# Altium schematic symbol library OP_Amps.SchLib: 3 symbols
Pins are listed as number, name and electrical type; pins without a type are passive.

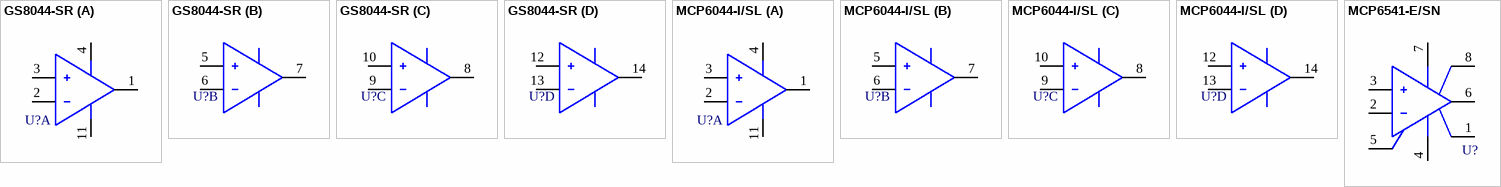
[diagram p0: symbols GS8044-SR to MCP6541-E/SN]

## GS8044-SR
designator U?, comment GS8044  (value not drawn)
IC OPAMP GP 4 CIRCUIT 14SOIC; Manufacturer: Gainsil; Manufacturer Part Number: GS8044-SR; Category: Amplificador operacional; Datasheet: https://datasheet.lcsc.com/lcsc/2206101816_Gainsil-GS8044-SR_C605428.pdf; Temperature Max: 125; Temperature Min: -40
footprint GS8044-SR
part A pins: 1 VOUTA, 2 VINA-, 3 VINA+, 4 VDD (power), 11 VSS (power)
part B pins: 5 VINB+, 6 VINB-, 7 VOUTB
part C pins: 8 VOUTC, 9 VINC-, 10 VINC+
part D pins: 12 VIND+, 13 VIND-, 14 VOUTD

## MCP6044-I/SL
designator U?, comment MCP6044  (value not drawn)
IC OPAMP GP 4 CIRCUIT 14SOIC; Manufacturer: Microchip Tech; Manufacturer Part Number: MCP6044-I/SL; Category: Amplificador operacional; Datasheet: https://ww1.microchip.com/downloads/en/DeviceDoc/20001669e.pdf; Temperature Max: 85; Temperature Min: -40
footprint MCP6044-I/SL
part A pins: 1 VOUTA, 2 VINA-, 3 VINA+, 4 VDD (power), 11 VSS (power)
part B pins: 5 VINB+, 6 VINB-, 7 VOUTB
part C pins: 8 VOUTC, 9 VINC-, 10 VINC+
part D pins: 12 VIND+, 13 VIND-, 14 VOUTD

## MCP6541-E/SN
designator U?, comment MCP6541  (value not drawn)
IC COMP PP I/O SNGL 1.6V 8SOIC; Manufacturer: Microchip Tech; Manufacturer Part Number: MCP6541-E/SN; Category: Amplificador operacional; Datasheet: https://ww1.microchip.com/downloads/en/DeviceDoc/MCP6541%20Output%20SubMicroamp%20Comparators%2020001696K.pdf; Temperature Max: 85; Temperature Min: -40
footprint MCP6541-E/SN
pins: 1 OS NUL, 2 IN-, 3 IN+, 4 V- (power), 5 OS NUL, 6 OUT, 7 V+ (power), 8 TAB